# Altium schematic symbol library MDD3A_MODULE.SchLib: 1 symbol
Pins are listed as number, name and electrical type; pins without a type are passive.

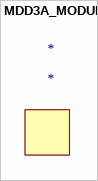
[diagram p0: symbol MDD3A_MODULE]

## MDD3A_MODULE
designator *
footprint MDD3A_MODULE